# Altium schematic symbol library MICRON-MT28F800B5SP-8B.schlib: 1 symbol
Pins are listed as number, name and electrical type; pins without a type are passive.

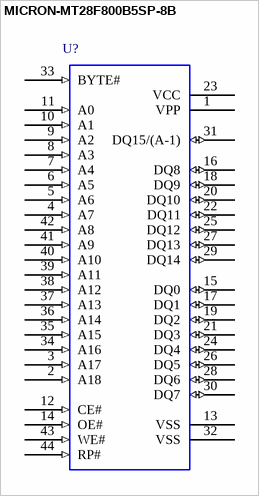
[diagram p0: symbol MICRON-MT28F800B5SP-8B]

## MICRON-MT28F800B5SP-8B
designator U?  (value not drawn)
8Mb SMART 5 BOOT BLOCK FLASH MEMORY; CircuitryPartsPN: MICRON-MT28F800B5SP-8B; ManufacturerPN: MT28F800B5SP-8B; Manufacturer: Micron Technology Inc; CategoryI: Integrated Circuits (ICs); CategoryII: NOR FLASH MEMORY; SchematicRev: A; DesignedBy: Circuitry Parts; MfgURL: http://www.micron.com/; PackageName: SOP44; FootprintName: *; Value: *; DesignedOn: 7/18/2005 3:14:53 PM
pins: 1 VPP (power), 2 A18 (in), 3 A17 (in), 4 A7 (in), 5 A6 (in), 6 A5 (in), 7 A4 (in), 8 A3 (in), 9 A2 (in), 10 A1 (in), 11 A0 (in), 12 CE# (in), 13 VSS (power), 14 OE# (in), 15 DQ0 (io), 16 DQ8 (io), 17 DQ1 (io), 18 DQ9 (io), 19 DQ2 (io), 20 DQ10 (io), 21 DQ3 (io), 22 DQ11 (io), 23 VCC (power), 24 DQ4 (io), 25 DQ12 (io), 26 DQ5 (io), 27 DQ13 (io), 28 DQ6 (io), 29 DQ14 (io), 30 DQ7 (io), 31 DQ15/(A-1) (io), 32 VSS (power), 33 BYTE# (in), 34 A16 (in), 35 A15 (in), 36 A14 (in), 37 A13 (in), 38 A12 (in), 39 A11 (in), 40 A10 (in), 41 A9 (in), 42 A8 (in), 43 WE# (in), 44 RP# (in)